# EAGLE library part EMIF06-MSD01F2 (library passives)
Mini and micro SD Card - EMI filtering and 25 kV ESD protection
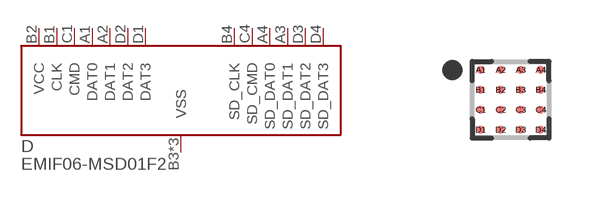
[diagram p2: symbol with the pads of BGA16C50P4X4_192X192X65N; footprint BGA16C50P4X4_192X192X65N]

Designator prefix D

## EMIF06-MSD01F2 (DIGIKEY: 497-5903-1-ND; MANUFACTURER: STMicroelectronics; MPN: EMIF06-MSD01F2)  [BGA16C50P4X4_192X192X65N]
A1  DAT0
A2  DAT1
A3  SD_DAT1
A4  SD_DAT0
B1  CLK
B2  VCC
B3  VSS
B4  SD_CLK
C1  CMD
C2  VSS
C3  VSS
C4  SD_CMD
D1  DAT3
D2  DAT2
D3  SD_DAT2
D4  SD_DAT3

## Footprint BGA16C50P4X4_192X192X65N (pad centres in mm)
16-BGA, collapsing, 0.50 mm pitch, 1.92 X 1.92 X 0.65 mm body 16-pin collapsing BGA package with 0.50 mm col pitch and 0.50 mm row pitch with body size 1.92 X 1.92 X 0.65 mm
smd 0.2 x 0.2: A1 -0.75,0.75; A2 -0.25,0.75; A3 0.25,0.75; A4 0.75,0.75; B1 -0.75,0.25; B2 -0.25,0.25; B3 0.25,0.25; B4 0.75,0.25; C1 -0.75,-0.25; C2 -0.25,-0.25; C3 0.25,-0.25; C4 0.75,-0.25; D1 -0.75,-0.75; D2 -0.25,-0.75; D3 0.25,-0.75; D4 0.75,-0.75